# Altium footprint library GAN3R2-100CBE.PcbLib: 1 footprints
Each footprint in its own frame and in the unit in brackets; x right, y up, seen from the top. Pads: shape width x height; smd on the part's side, far side on the other; paste and mask are expansions set on the pad; w line width, h text height; cw(c..) or ccw(c..) is an arc to the next point about the centre after c.
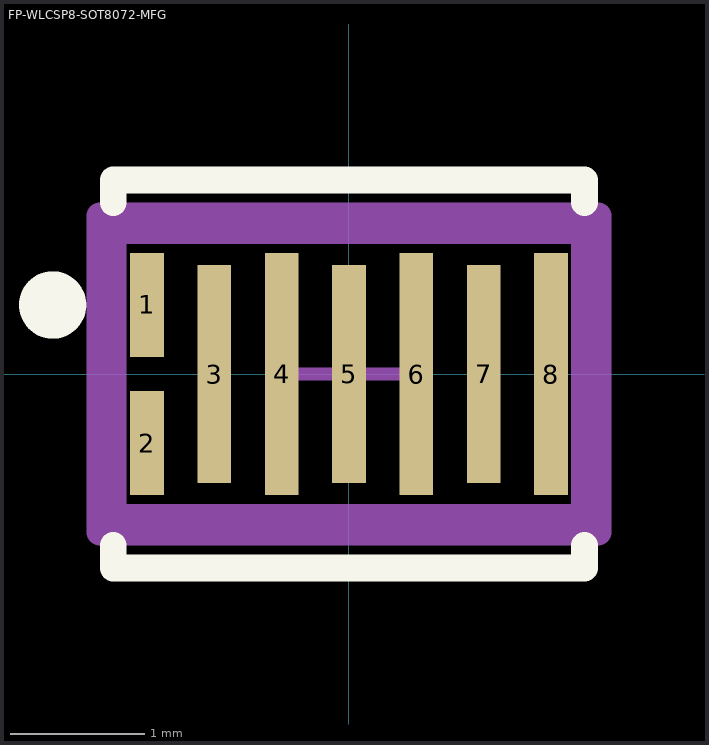
[diagram p0: the footprint, top view; thin cyan lines are the x and y axes]

## FP-WLCSP8-SOT8072-MFG [mm]
pads (8):
  rect 0.25x0.77 smd paste-1000 mask+0: 1(-1.5,0.512) 2(-1.5,-0.513)
  rect 0.25x1.62 smd paste-1000 mask+0: 3(-1,0) 5(0,0) 7(1,0)
  rect 0.25x1.8 smd paste-1000 mask+0: 4(-0.5,0) 6(0.5,0) 8(1.5,0)
Top Overlay:
  circle w0.25: c-2.2,0.512 r0.125
  lines w0.2: -1.75,-1.272 -1.75,-1.44 1.75,-1.44 1.75,-1.275 ; -1.75,1.272 -1.75,1.44 1.75,1.44 1.75,1.275
Top Paste:
  rectangle: 1.4,-0.875 1.6,0.875
  rectangle: 0.4,-0.875 0.6,0.875
  rectangle: -0.6,-0.875 -0.4,0.875
  rectangle: 0.9,-0.785 1.1,0.785
  rectangle: -0.1,-0.785 0.1,0.785
  rectangle: -1.1,-0.785 -0.9,0.785
  rectangle: -1.6,-0.873 -1.4,-0.152
  rectangle: -1.6,0.152 -1.4,0.873
Top Assembly:
  lines w0.2: -1.85,-1.175 -1.85,1.175 1.85,1.175 1.85,-1.175 -1.85,-1.175
  text ".Designator" at 0,0.188 h1
Top 3D Body:
  lines w0.2: -1.75,-1.065 -1.75,1.065 1.75,1.065 1.75,-1.065 -1.75,-1.065
Top Courtyard:
  lines w0.2: -1.85,-1.175 -1.85,1.175 1.85,1.175 1.85,-1.175 -1.85,-1.175
Top Component Center:
  lines w0.1: -0.5,0 0.5,0 ; 0,-0.5 0,0.5
3D body "Trans_Nexperia_GAN3R2-100CBEAZ_eec.STEP": height 0.25, standoff 0, extent -1.85,-1.175 1.85,1.175